# Altium integrated library lib-Transistors.IntLib: 2 symbols
Pins are listed as number, name and electrical type; pins without a type are passive.

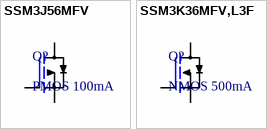
[diagram p0: symbols SSM3J56MFV to SSM3K36MFV,L3F]

## SSM3J56MFV
designator Q?, comment PMOS 100mA
Toshiba PMOS 100mA; Manufacturer 1: Toshiba Semiconductor and Storage; Manufacturer Part Number 1: SSM3J56MFV,L3F; Supplier 1: Digikey; Datasheet Link: file:///D:/Downloads/SSM3J56MFV_datasheet_en_20140301.pdf; Supplier Part Number 1: SSM3J56MFVL3FCT-ND
footprint SOT-723 (TOSHIBA SOT-723)
pins: 1 GATE, 2 SOURCE, 3 DRAIN

## SSM3K36MFV,L3F
designator Q?, comment NMOS 500mA
Toshiba NMOS 500mA; Manufacturer 1: Toshiba Semiconductor and Storage; Manufacturer Part Number 1: SSM3J56MFV,L3F; Supplier 1: Digikey; Datasheet Link: file:///D:/Downloads/SSM3J56MFV_datasheet_en_20140301.pdf; Supplier Part Number 1: SSM3J56MFVL3FCT-ND
footprint SOT-723 (TOSHIBA SOT-723)
pins: 1 GATE, 2 SOURCE, 3 DRAIN